# Altium integrated library USB4120-03-C_REVA.IntLib: 1 symbol
Pins are listed as number, name and electrical type; pins without a type are passive.

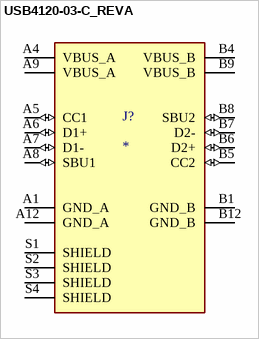
[diagram p0: symbol USB4120-03-C_REVA]

## USB4120-03-C_REVA
designator J?
MP: USB4120-03-C; MF: Global Connector Technology; SnapEDA_Link: https://www.snapeda.com/parts/USB4120-03-C/Global%20Connector%20Technology/view-part/5160677/?ref=snap; Package: None; Check_prices: https://www.snapeda.com/parts/USB4120-03-C/Global%20Connector%20Technology/view-part/5160677/?ref=eda; Value: *; Availability: Unavailable; Price: None
footprint GCT_USB4120-03-C_REVA
pins: A1 GND_A (power), A4 VBUS_A (power), A5 CC1 (io), A6 D1+ (io), A7 D1- (io), A8 SBU1 (io), A9 VBUS_A (power), A12 GND_A (power), B1 GND_B (power), B4 VBUS_B (power), B5 CC2 (io), B6 D2+ (io), B7 D2- (io), B8 SBU2 (io), B9 VBUS_B (power), B12 GND_B (power), S1 SHIELD, S2 SHIELD, S3 SHIELD, S4 SHIELD